# Altium schematic symbol library 1554IR22.Schlib: 1 symbol
Pins are listed as number, name and electrical type; pins without a type are passive.

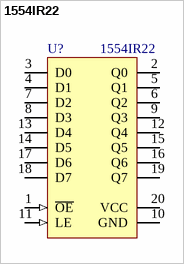
[diagram p0: symbol 1554IR22]

## 1554IR22
designator U?
8-bit register, driven by logic level, with parallel data input-output, with 3-state outputs.; Назначение: Восьмиразрядный регистр, управляемый по уровню, с параллельным вводом-выводом данных, с тремя состояниями на выходе; Наименование: 1554ИР22ТБМ; Потребление, Вт: 0.6; ComponentLink1Description: Datasheet; ComponentLink1URL: https://eandc.ru/pdf/mikroskhema/1554ir22.pdf
footprint 4153.20-6
pins: 1 ~{OE} (in), 2 Q0, 3 D0, 4 D1, 5 Q1, 6 Q2, 7 D2, 8 D3, 9 Q3, 10 GND, 11 LE (in), 12 Q4, 13 D4, 14 D5, 15 Q5, 16 Q6, 17 D6, 18 D7, 19 Q7, 20 VCC